# Altium footprint library Diodes.PcbLib: 15 footprints
Each footprint in its own frame and in the unit in brackets; x right, y up, seen from the top. Pads: shape width x height; smd on the part's side, far side on the other; paste and mask are expansions set on the pad; w line width, h text height; cw(c..) or ccw(c..) is an arc to the next point about the centre after c.
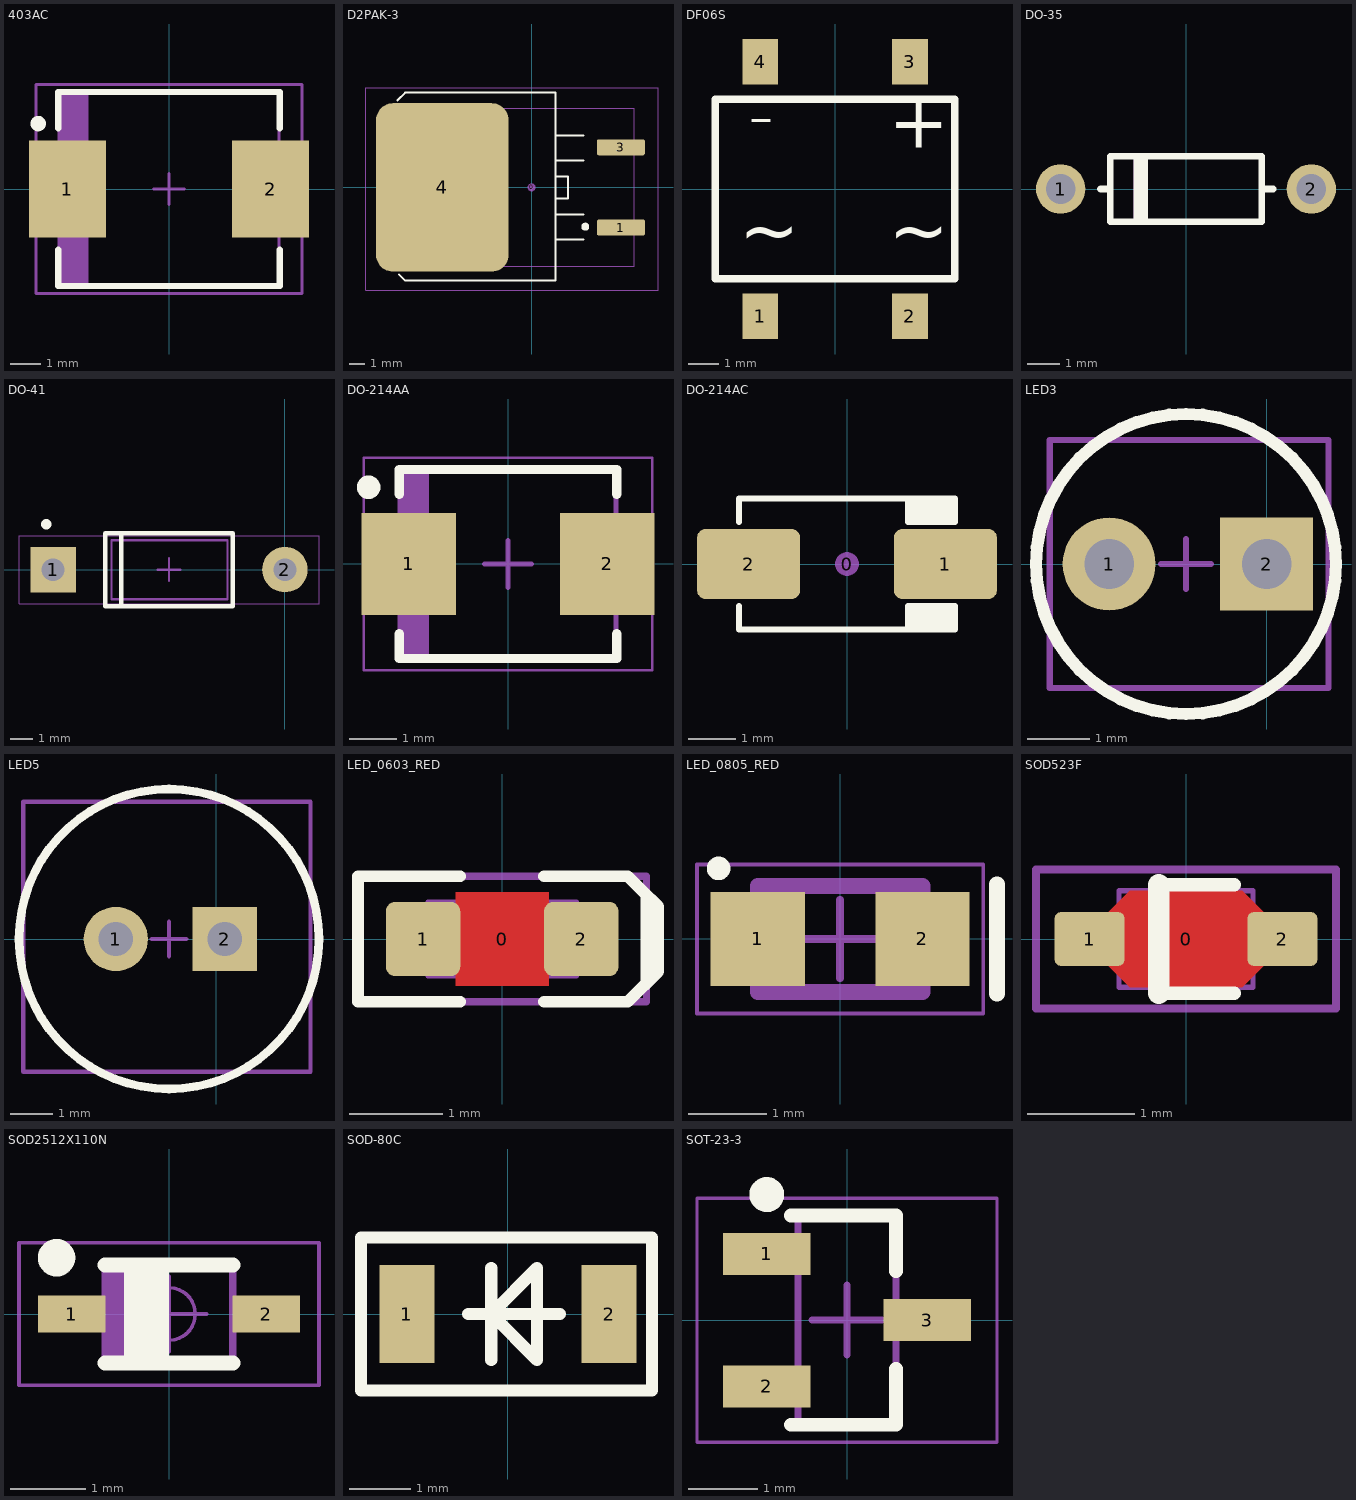
[diagram p0: the footprints below, top view; thin cyan lines are the x and y axes]

## 403AC [mm] "Molded Diode, 2-Leads, Body 6,88x5,90mm, IPC Medium Density"
height 2.61
pads (2):
  rect 2.5x3.15 smd: 1(-3.3,0) 2(3.3,0)
Top Overlay:
  circle w0.25: c-4.25,2.125 r0.125
  lines w0.2: -3.6,-1.975 -3.6,-3.15 3.6,-3.15 3.6,-1.975 ; -3.6,1.975 -3.6,3.15 3.6,3.15 3.6,1.975
Mechanical 13:
  rectangle: -3.575,-3.125 -2.613,3.125
  lines w0.1: -3.575,-3.125 3.575,-3.125 3.575,3.125 -3.575,3.125 -3.575,-3.125
Mechanical 15:
  lines w0.1: -0.5,0 0.5,0 ; 0,-0.5 0,0.5 ; -4.325,-3.4 4.325,-3.4 4.325,3.4 -4.325,3.4 -4.325,-3.4
3D body "User Library-DO-214AB-SMC.step": height 2.4, standoff -0.05, extent -3.9,-2.95 3.9,2.95

## D2PAK-3 [mil] "D-PAK/TO-263-3; 3 Leads (1 Cropped); Body 14.7 (inc. leads) x 10.2 mm (LxW max)"
height 180
pads (4):
  round 20 on Mech15: 0(0,0)
  rrect25% 120x40 smd: 1(222.5,-100) 3(222.5,100)
  rrect25% 330x420 smd: 4(-222.5,0)
Top Overlay:
  circle w9.84: c133.8,-97.83 r4.92
  lines w5: -334.65,216.54 -314.96,236.22 59.06,236.22 59.06,-232.28 -314.96,-232.28 -330.71,-216.54 ; 129.92,-129.92 59.06,-129.92 59.06,-66.93 129.92,-66.93 ; 129.92,66.93 59.06,66.93 59.06,129.92 129.92,129.92 ; 59.06,-27.56 90.55,-27.56 90.55,27.56 59.06,27.56 59.06,-27.56
Mechanical 13:
  lines w3: -361.41,-196.85 -361.41,196.85 255.51,196.85 255.51,-196.85 -361.41,-196.85
Mechanical 15:
  lines w3: -413.39,-255.91 314.96,-255.91 314.96,248.03 -413.39,248.03 -413.39,-255.91
3D body "SW3dPS-TO263-3S.STEP": height 189.36, standoff 0.39, extent -361.41,-196.85 255.51,196.85

## DF06S [mm]
pads (4):
  rect 1.2x1.524 smd: 1(-2.5,-4.25) 2(2.5,-4.25) 3(2.5,4.25) 4(-2.5,4.25)
Top Overlay:
  lines w0.254: -4,-3 -4,3 4,3 4,-3 -4,-3
  text "-" at -2.9,1.1 h3
  text "+" at 1.8,0.8 h3
  text "~" at 1.8,-2.8 h3
  text "~" at -3.2,-2.8 h3
3D body "User Library-DF02S.step": height 2.69, standoff -0.02, extent -4.065,-4.7 4.065,4.7

## DO-35 [mm] "Diode, Axial, Body 4.6 x 2 mm (LxDia. max), Pin spacing 7.62mm"
height 2
pads (2):
  round 1.5 hole 0.9: 1(-3.81,0) 2(3.81,0)
Top Overlay:
  lines w0.2: -2.6,0 -2.35,0 ; -1.499,-1 -1.499,0.999 ; -1.45,-1 -1.45,0.999 ; -1.401,-1 -1.401,0.999 ; -1.352,-1 -1.352,0.999 ; -1.303,-1 -1.303,0.999 ; -1.254,-1 -1.254,0.999 ; 2.4,0 2.65,0 ; -2.298,-1 -2.298,1 2.3,1 2.3,-1 -2.298,-1
Mechanical 14:
  lines w0.1: -2.6,0 -2.35,0 ; -1.55,-1 -1.55,1 ; -1.501,-1 -1.501,1 ; -1.499,-1 -1.499,1 ; -1.452,-1 -1.452,1 ; -1.403,-1 -1.403,1 ; -1.354,-1 -1.354,1 ; -1.305,-1 -1.305,1 ; -1.205,-1 -1.205,1 ; 2.35,0 2.6,0 ; -2.3,-1 2.3,-1 2.3,1 -2.3,1 -2.3,-1 ; -1.45,-1 -1.45,1 -1.45,-1 ; -1.401,-1 -1.401,1 -1.401,-1 ; -1.352,-1 -1.352,1 -1.352,-1 ; -1.303,-1 -1.303,1 -1.303,-1 ; -1.254,-1 -1.254,1 -1.254,-1
3D body "DO-35.stp": height 1.91, standoff -3, extent -4.076,-0.955 4.077,0.955

## DO-41 [mm]
pads (2):
  rect 2x2 hole 1: 1(-10.2,0)
  round 2 hole 1: 2(0,0)
Top Overlay:
  circle w0.254: c-10.5,2 r0.1
  lines w0.2: -7.2,-1.6 -7.2,1.6 ; -7.9,-1.6 -2.3,-1.6 -2.3,1.6 -7.9,1.6 -7.9,-1.6
Mechanical 13:
  lines w0.1: -7.63,-1.3 -2.53,-1.3 -2.53,1.3 -7.63,1.3 -7.63,-1.3
Mechanical 15:
  lines w0.05: -11.7,-1.5 -11.7,1.5 1.5,1.5 1.5,-1.5 1.2,-1.5 -11.7,-1.5
  lines w0.1: -5.6,0 -4.6,0 ; -5.1,-0.5 -5.1,0.5
3D body "User Library-DO-41-1.step": height 3.23, standoff -2.1, extent -10.592,-1.37 0.432,1.37

## DO-214AA [mm] "Molded Diode, 2-Leads, Body 4,31x3,62mm, IPC Medium Density"
height 2.62
pads (2):
  rect 2x2.15 smd: 1(-2.1,0) 2(2.1,0)
Top Overlay:
  circle w0.25: c-2.95,1.625 r0.125
  lines w0.2: -2.3,-1.475 -2.3,-2 2.3,-2 2.3,-1.475 ; -2.3,1.475 -2.3,2 2.3,2 2.3,1.475
Mechanical 13:
  rectangle: -2.285,-1.97 -1.67,1.97
  lines w0.1: -2.285,-1.97 2.285,-1.97 2.285,1.97 -2.285,1.97 -2.285,-1.97
Mechanical 15:
  lines w0.05: -3.05,-2.25 3.05,-2.25 3.05,2.25 -3.05,2.25 -3.05,-2.25
  lines w0.1: -0.5,0 0.5,0 ; 0,-0.5 0,0.5
3D body "User Library-DIOM5539X24.step": height 2.45, standoff 0.03, extent -2.75,-1.95 2.75,1.95

## DO-214AC [mm] "JEDEC DO214 variation AC. SMA"
height 2.5
pads (3):
  round 0.508 on Mech15: 0(0,0)
  rrect25% 2.2x1.5 smd: 1(2.1,0) 2(-2.1,0)
Top Overlay:
  rectangle: 1.3,0.9 2.3,1.4
  rectangle: 1.3,-1.4 2.3,-0.9
  lines w0.127: -2.3,-0.9 -2.3,-1.4 2.3,-1.4 2.3,-0.9 1.3,-0.9 1.3,-1.4 ; -2.3,0.9 -2.3,1.4 2.3,1.4 2.3,0.9 1.3,0.9 ; 1.3,0.911 1.3,1.4
3D body "SW3dPS-DO-214AC SMA.STEP": height 2.42, standoff 0.02, extent -2.6,-1.3 2.6,1.3

## LED3 [mm]
pads (2):
  round 1.5 hole 0.8: 1(-2.54,0)
  rect 1.5x1.5 hole 0.8: 2(0,0)
Top Overlay:
  circle w0.2: c-1.3,0 r2.421
Mechanical 15:
  lines w0.1: -1.7,0 -0.9,0 ; -1.3,-0.4 -1.3,0.4 ; -3.5,-2 -3.5,2 1,2 1,-2 -3.5,-2
3D body "SW3dPS-LEDd3G.STEP": height 5.51, standoff -2.49, extent -2.906,-1.64 0.394,1.649

## LED5 [mm]
pads (2):
  round 1.5 hole 0.8: 1(-2.34,0)
  rect 1.5x1.5 hole 0.8: 2(0.2,0)
Top Overlay:
  circle w0.2: c-1.1,0 r3.5
Mechanical 15:
  lines w0.1: -1.5,0 -0.7,0 ; -1.1,-0.4 -1.1,0.4 ; -4.5,-3.1 -4.5,3.2 2.2,3.2 2.2,-3.1 -4.5,-3.1
3D body "SW3dPS-LEDd5G.STEP": height 12.31, standoff -2.49, extent -4.05,-2.96 1.37,3.06

## LED_0603_RED [mm]
height 0.8
pads (3):
  round 0.254 on Mech15: 0(0,0)
  rrect25% 0.8x0.8 smd: 1(-0.85,0) 2(0.85,0)
Top Layer:
  pour cut-out: -0.5,0.5 0.5,0.5 0.5,-0.5 -0.5,-0.5
Top Overlay:
  lines w0.127: -0.45,-0.675 -1.55,-0.675 -1.55,0.675 -0.45,0.675 ; 0.45,-0.675 1.35,-0.675 1.55,-0.475 1.55,0.475 1.35,0.675 0.45,0.675 ; 1.5,0.525 1.675,0.35 1.675,-0.35 1.525,-0.5
Mechanical 13:
  lines w0.05: -0.6,-0.4 -0.6,0.399 0.6,0.4 0.6,-0.4 -0.6,-0.399 ; -0.505,-0.398 -0.505,0.398 ; -0.5,-0.4 -0.8,-0.4 -0.8,0.4 -0.5,0.4 ; 0.5,-0.4 0.8,-0.4 0.8,0.4 0.5,0.4 ; 0.505,-0.398 0.505,0.398 ; -0.599,-0.398 -0.599,0.398 0.599,0.398 0.599,-0.398 -0.599,-0.398
Mechanical 15:
  lines w0.076: -1.55,-0.675 1.55,-0.675 1.55,0.675 -1.55,0.675 -1.55,-0.675
3D body "LED 0603 APT1608 RED.STEP": height 0.75, standoff 0, extent -0.8,-0.4 0.8,0.4

## LED_0805_RED [mm] "LED, 2-Leads, Body 2,00x1,25mm, IPC Medium Density"
height 0.8
pads (2):
  rect 1.2x1.2 smd: 1(-1.05,0) 2(1.05,0)
Top Overlay:
  circle w0.2: c-1.55,0.9 r0.05
  lines w0.2: 2,-0.7 2,0.7
Mechanical 13:
  rectangle: -1.05,-0.675 -0.768,0.675
  lines w0.2: -1.05,-0.675 -1.05,0.675 1.05,0.675 1.05,-0.675 -1.05,-0.675
Mechanical 15:
  lines w0.05: -1.825,-0.95 -1.825,0.95 1.825,0.95 1.825,-0.95 -1.825,-0.95
  lines w0.1: -0.5,0 0.5,0 ; 0,-0.5 0,0.5
3D body "CHIPLED-0805.step": height 0.9, standoff -0.01, extent -1.05,-0.675 1.05,0.675

## SOD523F [mm] "SOD-523F; 2 Leads; Body 1.3 x 0.9 mm, (LxW)"
height 0.7
pads (3):
  round 0.508 on Mech15: 0(0,0)
  rrect20% 0.65x0.5 smd: 1(-0.9,0) 2(0.9,0)
Top Layer:
  pour cut-out: -0.725,-0.25 -0.725,0.25 -0.525,0.45 0.525,0.45 0.725,0.25 0.725,-0.25 0.525,-0.45 -0.525,-0.45
Top Overlay:
  lines w0.127: -0.254,-0.508 0.45,-0.508 ; -0.254,0.508 0.45,0.508
  lines w0.2: -0.254,-0.508 -0.254,0.508
  text "." at -0.9,-0.625 h0.05
Mechanical 13:
  lines w0.05: -0.625,-0.175 -0.625,0.175 ; -0.625,-0.175 -0.625,-0.45 0.625,-0.45 0.625,-0.175 ; -0.625,-0.175 -0.85,-0.175 -0.85,0.175 -0.625,0.175 ; -0.625,0.175 -0.625,0.45 0.625,0.45 0.625,0.175 ; 0.625,-0.175 0.625,0.175 ; 0.625,-0.175 0.85,-0.175 0.85,0.175 0.625,0.175
  lines w0.127: -0.425,-0.275 -0.425,0.275
Mechanical 15:
  lines w0.076: -1.4,-0.65 1.4,-0.65 1.4,0.65 -1.4,0.65 -1.4,-0.65
3D body "SOD-523F.STEP": height 0.7, standoff 0, extent -0.85,-0.45 0.85,0.45

## SOD2512X110N [mm] "Small Outline Diode Flat Lead (SOD-323), 1.70mm W X 1.25mm L X 1.10mm H body,  IPC Medium Density"
height 1.1
pads (2):
  rect 0.9x0.5 smd: 1(-1.3,0) 2(1.3,0)
Top Overlay:
  circle w0.25: c-1.5,0.75 r0.125
  lines w0.2: -0.85,-0.65 0.85,-0.65 ; -0.85,0.65 0.85,0.65 ; -0.5,-0.65 -0.5,0.65 ; -0.3,-0.65 -0.3,0.65 ; -0.1,-0.65 -0.1,0.65
Mechanical 14:
  lines w0.1: -0.75,-0.625 -0.75,0.625 ; -0.65,-0.625 -0.65,0.625 ; -0.55,-0.625 -0.55,0.625 ; -0.45,-0.625 -0.45,0.625 ; -0.35,-0.625 -0.35,0.625 ; -0.25,-0.625 -0.25,0.625 ; -0.15,-0.625 -0.15,0.625 ; -0.85,-0.625 -0.85,0.625 ; -0.85,-0.625 -0.85,0.625 ; -0.85,-0.625 0.85,-0.625 0.85,0.625 -0.85,0.625
Mechanical 15:
  circle w0.05: c0,0 r0.35
  lines w0.05: -0.5,0 0.5,0 ; 0,-0.5 0,0.5 ; -2,-0.95 -2,0.95 2,0.95 2,-0.95 -2,-0.95
3D body "SOD2512X110N(SOD-323).stp": height 1.1, standoff 0, extent -1.35,-0.675 1.35,0.675

## SOD-80C [mm] "SMD Diode"
height 1.6
pads (2):
  rect 0.9x1.6 smd: 1(-1.65,0) 2(1.65,0)
Top Overlay:
  lines w0.2: -0.65,0 0.85,0 ; -0.275,-0.75 -0.275,0.75 ; -2.4,-1.25 -2.4,1.25 2.35,1.25 2.35,-1.25 -2.4,-1.25 ; -0.275,0 0.475,0.75 0.475,-0.75 -0.275,0
3D body "User Library-SOD80-3.STEP": height 1.5, standoff 0, extent -1.85,-0.75 1.75,0.75

## SOT-23-3 [mm] "SOT23, 3-Leads, Body 2,90x2,80mm, Pitch 0,95mm, IPC Medium Density"
height 1.12
pads (3):
  rect 1.25x0.6 smd: 1(-1.15,0.95) 2(-1.15,-0.95) 3(1.15,0)
Top Overlay:
  circle w0.25: c-1.15,1.8 r0.125
  lines w0.2: -0.8,-1.5 0.7,-1.5 0.7,-0.7 ; -0.8,1.5 0.7,1.5 0.7,0.7
Mechanical 13:
  lines w0.1: -0.7,-1.5 0.7,-1.5 0.7,1.5 -0.7,1.5 -0.7,-1.5
Mechanical 15:
  lines w0.05: -2.15,-1.75 2.15,-1.75 2.15,1.75 -2.15,1.75 -2.15,-1.75
  lines w0.1: -0.5,0 0.5,0 ; 0,-0.5 0,0.5
3D body "CircuitWorks-SOT-23.step": height 1.05, standoff -0.05, extent -1.25,-1.5 1.25,1.5